# Altium schematic symbol library OP光耦.SchLib: 5 symbols
Pins are listed as number, name and electrical type; pins without a type are passive.

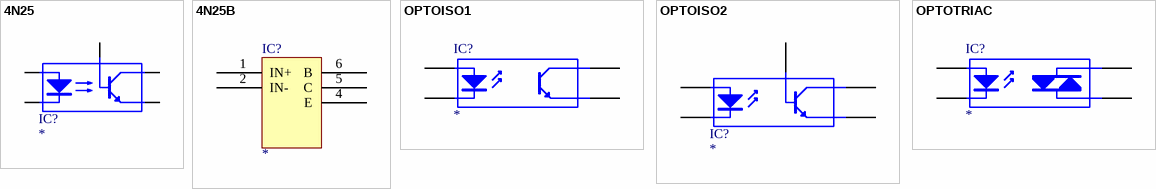
[diagram p0: symbols 4N25 to OPTOTRIAC]

## 4N25
designator IC?
footprint DIP-6
pins: 1 LED Anode, 2 LED Cathode, 4 Emitter, 5 Collector, 6 Base

## 4N25B
designator IC?
footprint DIP-6
pins: 1 IN+, 2 IN-, 4 E, 5 C, 6 B

## OPTOISO1
designator IC?
Optoisolator
footprint DIP-4
pins: 1 A, 2 K, 3 C, 4 E

## OPTOISO2
designator IC?
Optoisolator
footprint DIP-6
pins: 1 A, 2 K, 3 B, 4 C, 5 E

## OPTOTRIAC
designator IC?
footprint DIP-4
pins: 1 A, 2 K, 3 A/K, 4 A/K